# Altium schematic symbol library diploma.SchLib: 31 symbols
Pins are listed as number, name and electrical type; pins without a type are passive.

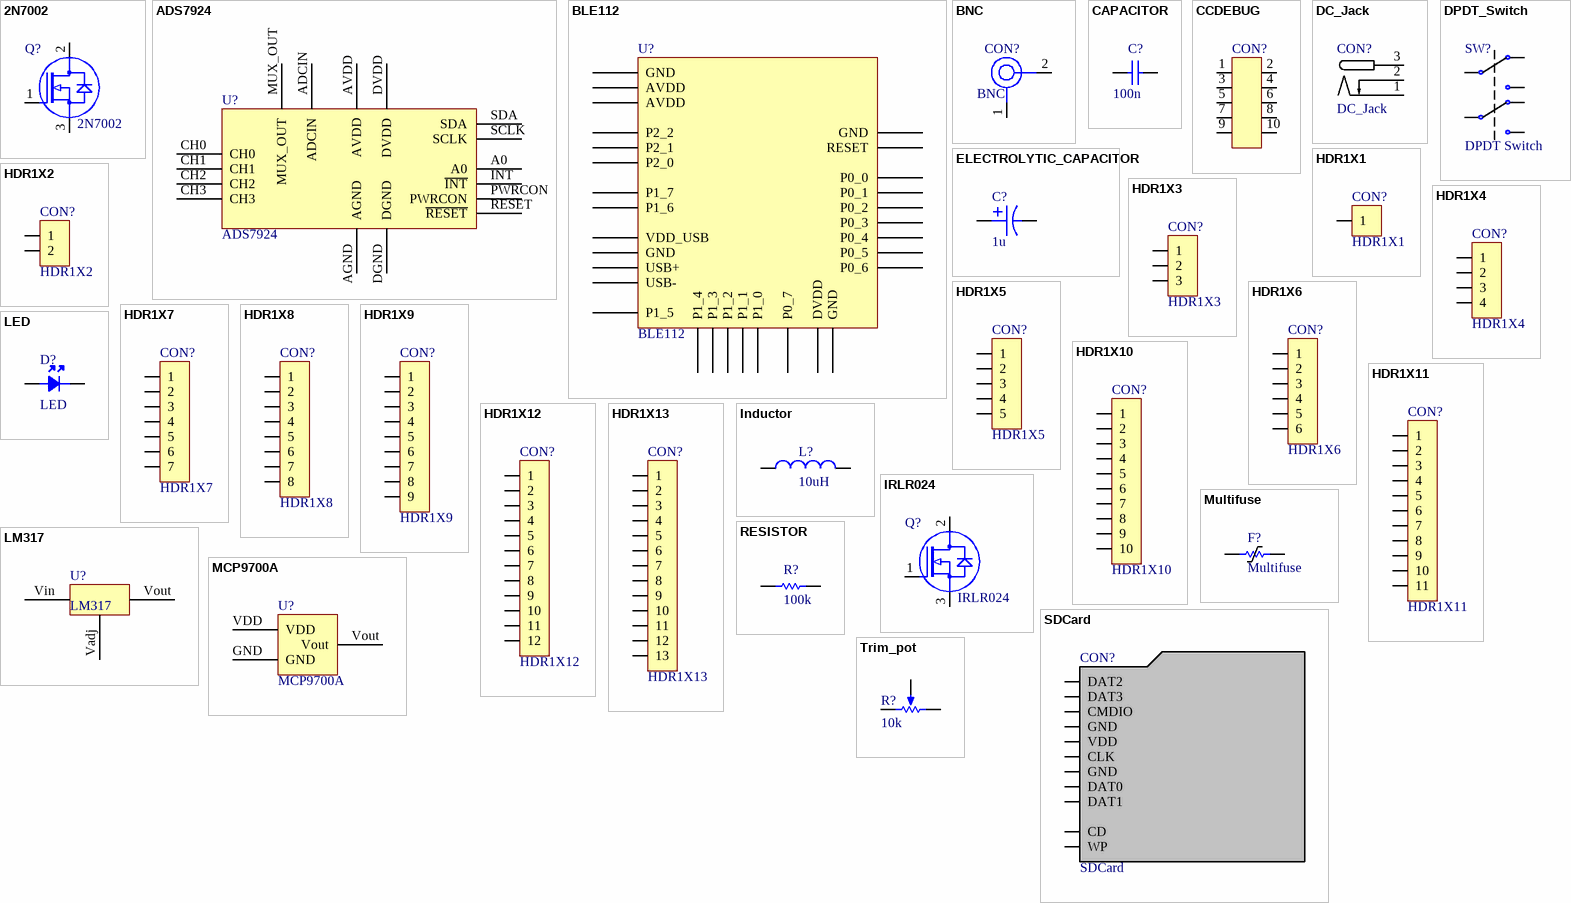
[diagram p0: symbols 2N7002 to Trim_pot]

## 2N7002
designator Q?
FARNELL: 2306371
footprint SOT23
pins: 1 GATE, 2 DRAIN, 3 SOURCE

## ADS7924
designator U?
FARNELL: 2496420
footprint QFN16
footprint QFN16 - HAND
pins: A0, ADCIN, AGND, AVDD, CH0, CH1, CH2, CH3, DGND, DVDD, INT ~{INT}, MUX_OUT, PWRCON, RESET ~{RESET}, SCLK, SDA

## BLE112
designator U?
FARNELL: 2113858
footprint BLE112 (BLE112 Bluetooth Low Energy module)
pins: AVDD, AVDD, DVDD, GND, GND, GND, GND, P0_0, P0_1, P0_2, P0_3, P0_4, P0_5, P0_6, P0_7, P1_0, P1_1, P1_2, P1_3, P1_4, P1_5, P1_6, P1_7, P2_0, P2_1, P2_2, RESET, USB+, USB-, VDD_USB

## BNC
designator CON?
FARNELL: 1076289
footprint BNC_THD
pins: 1, 2

## CAPACITOR
designator C?, comment 100n
Value: 100n
footprint 0805C
pins: 1, 2

## CCDEBUG
designator CON?
footprint HDR2X5_CC
pins: 1, 2, 3, 4, 5, 6, 7, 8, 9, 10

## DC_Jack
designator CON?
footprint DC_JACK (DC Power connector)
footprint DC_JACK_CIRCLE (DC Power connector)
pins: 1, 2, 3

## DPDT_Switch
designator SW?, comment DPDT Switch
FARNELL: 2320019
footprint DPDT
pins: 1, 2, 3, 4, 5, 6

## ELECTROLYTIC_CAPACITOR
designator C?, comment 1u
Value: 1u
footprint CA (Capacitor A footprint)
footprint CB (Capacitor B footprint)
footprint CC (Capacitor C footprint)
footprint CD (Capacitor D footprint)
pins: 1, 2

## HDR1X1
designator CON?
footprint HDR1X1
pins: 1

## HDR1X2
designator CON?
footprint HDR1X2MM
footprint HDR1X2RAST
pins: 1, 2

## HDR1X3
designator CON?
footprint HDR1X3MM
footprint HDR1X3RAST
pins: 1, 2, 3

## HDR1X4
designator CON?
footprint HDR1X4MM
footprint HDR1X4RAST
pins: 1, 2, 3, 4

## HDR1X5
designator CON?
footprint HDR1X5MM
footprint HDR1X5RAST
pins: 1, 2, 3, 4, 5

## HDR1X6
designator CON?
footprint HDR1X6MM
footprint HDR1X6RAST
pins: 1, 2, 3, 4, 5, 6

## HDR1X7
designator CON?
footprint HDR1X7MM
footprint HDR1X7RAST
pins: 1, 2, 3, 4, 5, 6, 7

## HDR1X8
designator CON?
footprint HDR1X8MM
footprint HDR1X8RAST
pins: 1, 2, 3, 4, 5, 6, 7, 8

## HDR1X9
designator CON?
footprint HDR1X9MM
footprint HDR1X9RAST
pins: 1, 2, 3, 4, 5, 6, 7, 8, 9

## HDR1X10
designator CON?
footprint HDR1X10MM
footprint HDR1X10RAST
pins: 1, 2, 3, 4, 5, 6, 7, 8, 9, 10

## HDR1X11
designator CON?
footprint HDR1X11MM
footprint HDR1X11RAST
pins: 1, 2, 3, 4, 5, 6, 7, 8, 9, 10, 11

## HDR1X12
designator CON?
footprint HDR1X12MM
footprint HDR1X12RAST
pins: 1, 2, 3, 4, 5, 6, 7, 8, 9, 10, 11, 12

## HDR1X13
designator CON?
footprint HDR1X13MM
footprint HDR1X13RAST
pins: 1, 2, 3, 4, 5, 6, 7, 8, 9, 10, 11, 12, 13

## Inductor
designator L?, comment 10uH
Value: 10uH
footprint 0805L
pins: 1, 2

## IRLR024
designator Q?
FARNELL: 2468052RL
footprint TO-252AA (D-PAK or TO-252AA package footprint)
pins: 1 GATE, 2 DRAIN, 3 SOURCE

## LED
designator D?
footprint 0805LED
pins: 1 A, 2 K

## LM317
designator U?
LOMEX: 44-02-23
footprint DPAK-3
pins: Vadj, Vin, Vout

## MCP9700A
designator U?
HESTORE: 1003.3751; FARNELL: 1332164
footprint TO-92
pins: GND, VDD, Vout

## Multifuse
designator F?
LOMEX: 44-02-23
footprint 1210FUSE
pins: 1, 2

## RESISTOR
designator R?, comment 100k
Value: 100k
footprint 0805R
pins: 1, 2

## SDCard
designator CON?
footprint SDCard
footprint MICROSDCARD; pin to pad WP>none
pins: CD, CLK, CMDIO, DAT0, DAT1, DAT2, DAT3, GND, GND, VDD, WP

## Trim_pot
designator R?, comment 10k
Value: 10k
footprint TRIM_POT
pins: 0, 1, 2